# Altium footprint library openmv-ae3.PcbLib: 51 footprints (part 3 of 4)
Each footprint in its own frame and in the unit in brackets; x right, y up, seen from the top. Pads: shape width x height; smd on the part's side, far side on the other; paste and mask are expansions set on the pad; w line width, h text height; cw(c..) or ccw(c..) is an arc to the next point about the centre after c.
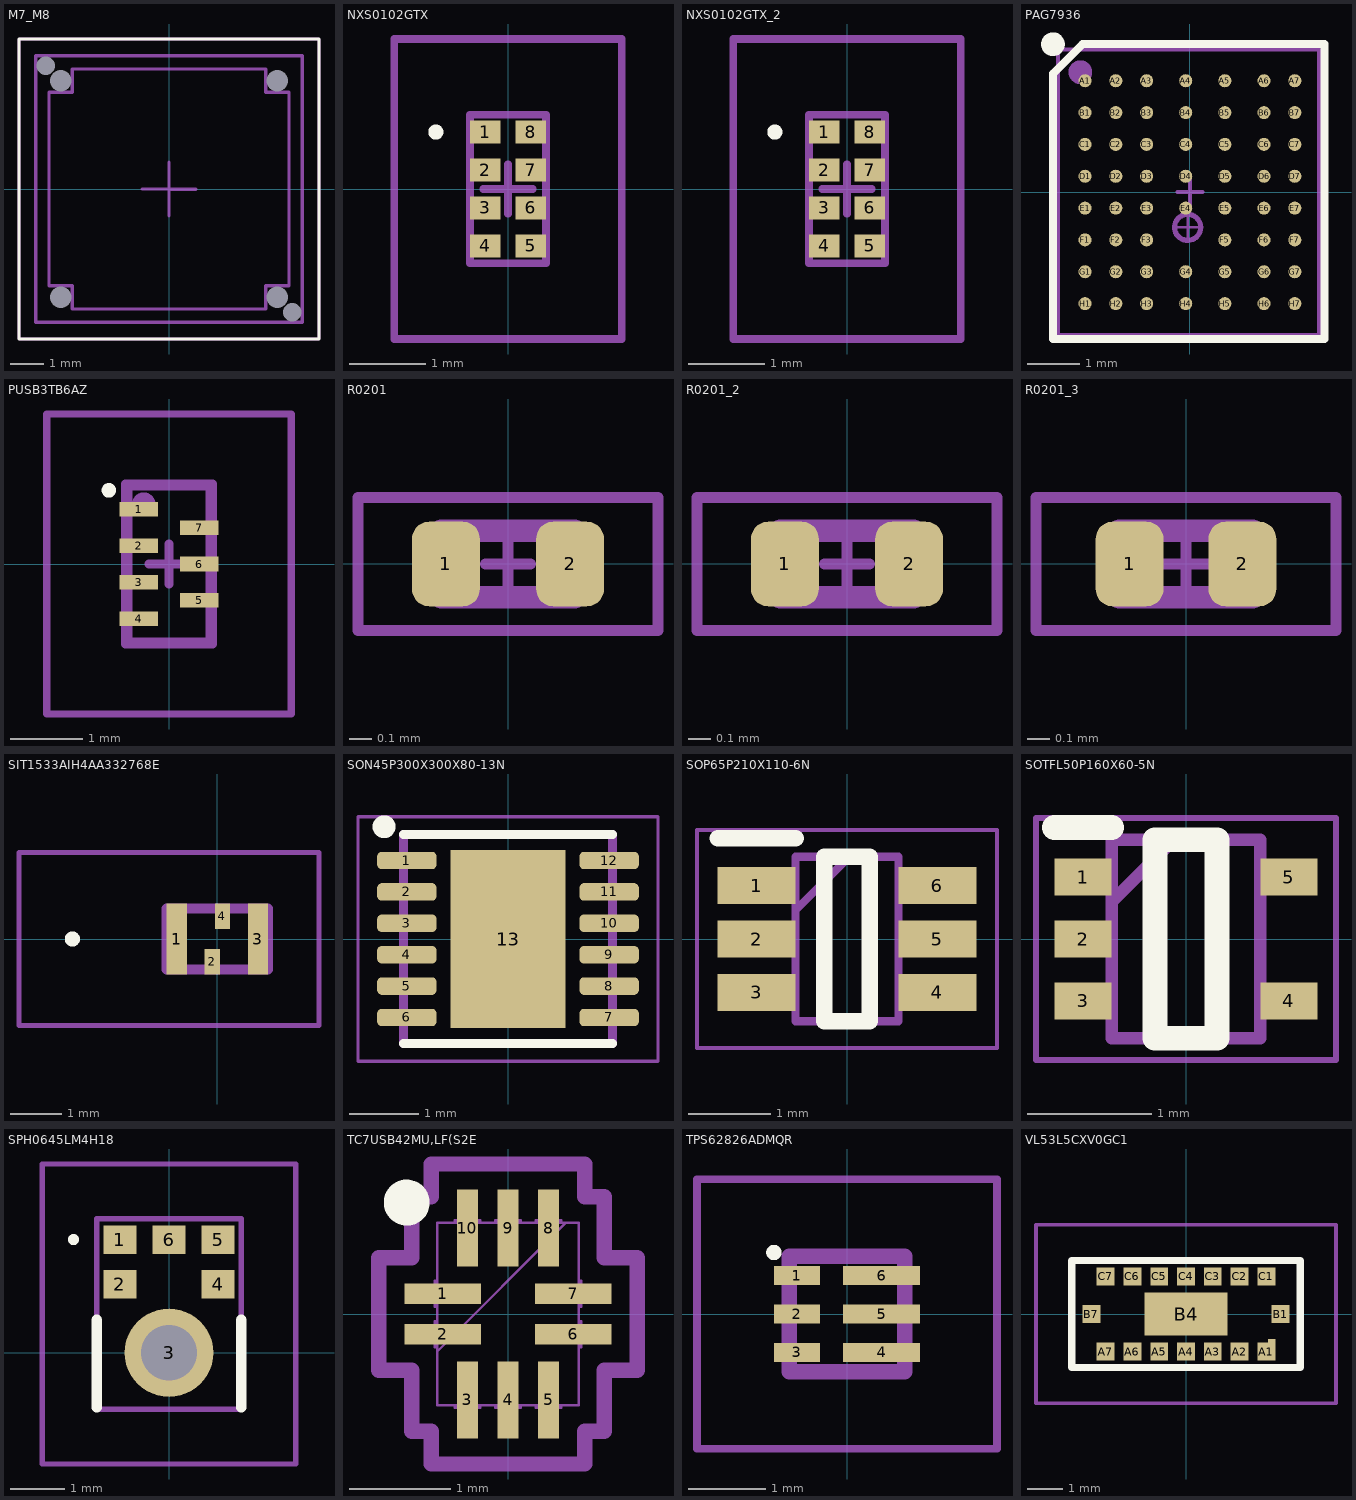
[diagram p2: the footprints below, top view; thin cyan lines are the x and y axes]

## M7_M8 [mm]
pads (6):
  rect 0x0 hole 0.55 unplated mask+0.05: 0(-3.7,3.7) 0(3.7,-3.7)
  rect 0x0 hole 0.65 unplated mask+0.05: 0(-3.25,-3.25) 0(-3.25,3.25) 0(3.25,-3.25) 0(3.25,3.25)
Top Overlay:
  lines w0.1: -4.5,-4.5 4.5,-4.5 4.5,4.5 -4.5,4.5 -4.5,-4.5
Mechanical 13:
  lines w0.1: -0.8,0 0,0 ; 0,-0.8 0,0 ; 0,0.8 0,0 ; 0.007,-0.006 0.807,-0.006 ; -4.5,-4.5 4.5,-4.5 4.5,4.5 -4.5,4.5 -4.5,-4.5 ; -4,-4 4,-4 4,4 -4,4 -4,-4 ; -3.6,-2.9 -3.6,2.9 -2.9,2.9 -2.9,3.6 2.9,3.6 2.9,2.9 3.6,2.9 3.6,-2.9 2.9,-2.9 2.9,-3.6 -2.9,-3.6 -2.9,-2.9 -3.6,-2.9
  text ".designator" at -1.9,-1.833 h0.5
3D body "HD14F3817.step": height 5.71, standoff 0.01, extent -4,-4 4,4
3D body "C451-H18-F10-5MP.step": height 9.52, standoff 0.01, extent -4.507,-4.494 4.493,4.506

## NXS0102GTX [mm]
pads (8):
  rect 0.4x0.3 smd mask+0.051: 1(-0.3,0.75) 2(-0.3,0.25) 3(-0.3,-0.25) 4(-0.3,-0.75) 5(0.3,-0.75) 6(0.3,-0.25) 7(0.3,0.25) 8(0.3,0.75)
Top Overlay:
  lines w0.1: -1,0.75 ccw(c-0.95,0.75) -0.9,0.75 ccw(c-0.95,0.75) -1,0.75
Top 3D Body:
  lines w0.1: -0.325,0 0,0 ; 0,-0.325 0,0 ; 0,0.325 0,0 ; 0.325,0 0,0 ; -0.5,-0.975 0.5,-0.975 0.5,0.975 -0.5,0.975 -0.5,-0.975
  text ".designator" at -0.4,-1.301 h0.3
Top Courtyard:
  lines w0.1: -0.5,-0.975 -0.5,0.975 0.5,0.975 0.5,-0.975 -0.5,-0.975
Mechanical 20:
  lines w0.1: -1.5,-1.975 -1.5,1.975 1.5,1.975 1.5,-1.975 -1.5,-1.975
3D body: height 0.51, standoff 0, extent -0.5,-0.975 0.5,0.975

## NXS0102GTX_2 [mm]
pads (8):
  rect 0.4x0.3 smd mask+0.051: 1(-0.3,0.75) 2(-0.3,0.25) 3(-0.3,-0.25) 4(-0.3,-0.75) 5(0.3,-0.75) 6(0.3,-0.25) 7(0.3,0.25) 8(0.3,0.75)
Top Overlay:
  lines w0.1: -1,0.75 ccw(c-0.95,0.75) -0.9,0.75 ccw(c-0.95,0.75) -1,0.75
Top 3D Body:
  lines w0.1: -0.325,0 0,0 ; 0,-0.325 0,0 ; 0,0.325 0,0 ; 0.325,0 0,0 ; -0.5,-0.975 0.5,-0.975 0.5,0.975 -0.5,0.975 -0.5,-0.975
  text ".designator" at -0.4,-1.301 h0.3
Top Courtyard:
  lines w0.1: -0.5,-0.975 -0.5,0.975 0.5,0.975 0.5,-0.975 -0.5,-0.975
Mechanical 20:
  lines w0.1: -1.5,-1.975 -1.5,1.975 1.5,1.975 1.5,-1.975 -1.5,-1.975
3D body: height 0.51, standoff 0, extent -0.5,-0.975 0.5,0.975

## PAG7936 [mm]
pads (55):
  round 0.25 smd mask+0.051: A1(-2.01,2.135) A2(-1.42,2.135) A3(-0.83,2.135) A4(-0.08,2.135) A5(0.67,2.135) A6(1.42,2.135) A7(2.01,2.135) B1(-2.01,1.525) B2(-1.42,1.525) B3(-0.83,1.525) B4(-0.08,1.525) B5(0.67,1.525) B6(1.42,1.525) B7(2.01,1.525) C1(-2.01,0.915) C2(-1.42,0.915) C3(-0.83,0.915) C4(-0.08,0.915) C5(0.67,0.915) C6(1.42,0.915) C7(2.01,0.915) D1(-2.01,0.305) D2(-1.42,0.305) D3(-0.83,0.305) D4(-0.08,0.305) D5(0.67,0.305) D6(1.42,0.305) D7(2.01,0.305) E1(-2.01,-0.305) E2(-1.42,-0.305) E3(-0.83,-0.305) E4(-0.08,-0.305) E5(0.67,-0.305) E6(1.42,-0.305) E7(2.01,-0.305) F1(-2.01,-0.915) F2(-1.42,-0.915) F3(-0.83,-0.915) F5(0.67,-0.915) F6(1.42,-0.915) F7(2.01,-0.915) G1(-2.01,-1.525) G2(-1.42,-1.525) G3(-0.83,-1.525) G4(-0.08,-1.525) G5(0.67,-1.525) G6(1.42,-1.525) G7(2.01,-1.525) H1(-2.01,-2.135) H2(-1.42,-2.135) H3(-0.83,-2.135) H4(-0.08,-2.135) H5(0.67,-2.135) H6(1.42,-2.135) H7(2.01,-2.135)
Top Overlay:
  circle w0.254: c-2.625,2.835 r0.1
  lines w0.152: -2.625,-2.814 -2.625,2.271 -2.061,2.835 2.575,2.835 2.575,-2.814 -2.625,-2.814
Top 3D Body:
  circle w0.254: c-2.1,2.3 r0.1
  circle w0.1: c-0.044,-0.675 r0.25
  lines w0.05: -0.297,-0.675 -0.043,-0.675 ; -0.044,-0.928 -0.044,-0.675 -0.043,-0.675 ; -0.043,-0.421 -0.043,-0.675 ; 0.211,-0.675 -0.043,-0.675
  lines w0.076: -0.237,0 0,0 ; 0,-0.262 0,0 ; 0,0.267 0,0 ; 0.245,0 0,0 ; -2.525,-2.741 -2.525,2.735 2.475,2.735 2.475,-2.741 -2.525,-2.741
  text "chip center" at 0,-0.036 h0.25
  text ".designator" at -2.2,-2.75 h0.64
  text "optical center" at 0.35,-1.39 h0.25
3D body: height 0.8, standoff 0, extent -2.525,-2.741 2.475,2.735

## PUSB3TB6AZ [mm]
height 2.5
pads (7):
  rect 0.53x0.2 smd mask+0.05: 1(-0.415,0.75) 2(-0.415,0.25) 3(-0.415,-0.25) 4(-0.415,-0.75) 5(0.415,-0.5) 6(0.415,0) 7(0.415,0.5)
Top Overlay:
  lines w0.1: -0.877,1.013 cw(c-0.827,1.013) -0.777,1.013 cw(c-0.827,1.013) -0.877,1.013
Mechanical 13:
  circle w0.203: c-0.347,0.825 r0.058
  lines w0.127: -0.275,0 0,0 ; 0,-0.275 0,0 ; 0.275,0 0,0 ; 0,0 0,0.275 0,0 ; -0.6,-1.1 0.6,-1.1 0.6,1.1 -0.6,1.1 -0.6,-1.1
  text ".designator" at 0.58,-1 h0.3
Mechanical 15:
  lines w0.1: -0.55,-1.063 0.55,-1.063 0.55,1.063 -0.55,1.063 -0.55,-1.063
Mechanical 20:
  lines w0.1: -1.68,-2.063 1.68,-2.063 1.68,2.063 -1.68,2.063 -1.68,-2.063
3D body: height 0.5, standoff 0, extent -0.6,-1.1 0.6,1.1

## R0201 [mil] "0201 IPC-7351"
height 10.24
pads (2):
  rrect50% 12x15 smd mask+1.97: 1(-11,0) 2(11,0)
Mechanical 13:
  lines w1.97: -3.94,0 0,0 ; 0,-3.94 0,0 ; 0,3.94 0,0 ; 3.94,0 0,0 ; -26.57,-11.81 26.57,-11.81 26.57,11.81 -26.57,11.81 -26.57,-11.81
Mechanical 15:
  lines w3.94: -11.81,-5.91 11.81,-5.91 11.81,5.91 -11.81,5.91 -11.81,-5.91
  text ".designator" at -7.87,-2.95 h15.75
3D body "R0201.step": height 9.06, standoff 0, extent -11.81,-5.91 11.81,5.91

## R0201_2 [mil]
pads (2):
  rrect50% 12x15 smd mask+1.97: 1(-11,0) 2(11,0)
Mechanical 13:
  lines w3.94: -11.81,-5.91 11.81,-5.91 11.81,5.91 -11.81,5.91 -11.81,-5.91
  text ".designator" at -7.87,-2.95 h15.75
Mechanical 15:
  lines w1.97: -3.94,0 0,0 ; 0,-3.94 0,0 ; 0,3.94 0,0 ; 3.94,0 0,0 ; -26.57,-11.81 26.57,-11.81 26.57,11.81 -26.57,11.81 -26.57,-11.81
3D body "R0201.step": height 9.06, standoff 0, extent -11.81,-5.91 11.81,5.91

## R0201_3 [mil]
pads (2):
  rrect50% 12x15 smd mask+1.97: 1(-10,0) 2(10,0)
Top 3D Body:
  lines w3.94: -11.81,-5.91 11.81,-5.91 11.81,5.91 -11.81,5.91 -11.81,-5.91
  text ".designator" at -7.87,-2.95 h15.75
Top Courtyard:
  lines w1.97: -3.94,0 0,0 ; 0,-3.94 0,0 ; 0,3.94 0,0 ; 3.94,0 0,0 ; -26.57,-11.81 26.57,-11.81 26.57,11.81 -26.57,11.81 -26.57,-11.81
3D body "R0201.step": height 9.06, standoff 0, extent -11.81,-5.91 11.81,5.91

## SIT1533AIH4AA332768E [mm]
pads (4):
  rect 0.4x1.4 smd: 1(-0.8,0) 3(0.8,0)
  rect 0.3x0.5 smd: 2(-0.1,-0.45) 4(0.1,0.45)
Top Overlay:
  lines w0.2: -2.9,0 ccw(c-2.85,0) -2.8,0 ; -2.9,0 cw(c-2.85,0) -2.8,0 ; -2.9,0 ccw(c-2.85,0) -2.8,0
Mechanical 13:
  lines w0.1: -3.9,-1.7 2,-1.7 2,1.7 -3.9,1.7 -3.9,-1.7
Mechanical 15:
  lines w0.2: -1,-0.6 1,-0.6 1,0.6 -1,0.6 -1,-0.6
3D body "SIT1533AI-H4-AA3-32.768E.stp": height 0.6, standoff 0, extent -1.01,-0.6 0.99,0.6

## SON45P300X300X80-13N [mm]
pads (13):
  rrect50% 0.85x0.25 smd mask+0.051: 1(-1.45,1.125) 2(-1.45,0.675) 3(-1.45,0.225) 4(-1.45,-0.225) 5(-1.45,-0.675) 6(-1.45,-1.125) 7(1.45,-1.125) 8(1.45,-0.675) 9(1.45,-0.225) 10(1.45,0.225) 11(1.45,0.675) 12(1.45,1.125)
  rect 1.65x2.55 smd paste-0.254 mask+0.051: 13(0,0)
Top Overlay:
  circle w0.254: c-1.776,1.609 r0.037
  lines w0.127: -1.5,-1.5 1.5,-1.5 ; -1.5,1.5 1.5,1.5
Top 3D Body:
  lines w0.127: -0.25,0 0.25,0 ; 0,-0.25 0,0.25 ; -1.5,-1.5 1.5,-1.5 1.5,1.5 -1.5,1.5 -1.5,-1.5
  text ".designator" at -1.25,-1.635 h0.76
Top Courtyard:
  lines w0.05: -2.15,-1.75 2.15,-1.75 2.15,1.75 -2.15,1.75 -2.15,-1.75
3D body: height 0.5, standoff 0, extent -1.5,-1.5 1.5,1.5

## SOP65P210X110-6N [mm]
pads (6):
  rect 0.95x0.45 smd: 1(-1.1,0.65) 2(-1.1,0) 3(-1.1,-0.65) 4(1.1,-0.65) 5(1.1,0) 6(1.1,0.65)
Top Overlay:
  lines w0.2: -1.575,1.225 -0.625,1.225 ; -0.275,-1 0.275,-1 0.275,1 -0.275,1 -0.275,-1
Mechanical 13:
  lines w0.05: -1.825,-1.325 1.825,-1.325 1.825,1.325 -1.825,1.325 -1.825,-1.325
Mechanical 15:
  lines w0.1: -0.625,0.35 0.025,1 ; -0.625,-1 0.625,-1 0.625,1 -0.625,1 -0.625,-1
3D body "LM66100DCKR.stp": height 1, standoff 0, extent -1.05,-1 1.05,1

## SOTFL50P160X60-5N [mm]
pads (5):
  rect 0.46x0.3 smd: 1(-0.83,0.5) 2(-0.83,0) 3(-0.83,-0.5) 4(0.83,-0.5) 5(0.83,0.5)
Top Overlay:
  lines w0.2: -1.06,0.9 -0.6,0.9 ; -0.25,-0.8 -0.25,0.8 0.25,0.8 0.25,-0.8 -0.25,-0.8
Mechanical 13:
  lines w0.1: -0.6,0.3 -0.1,0.8 ; -0.6,-0.8 -0.6,0.8 0.6,0.8 0.6,-0.8 -0.6,-0.8
Mechanical 15:
  lines w0.05: -1.21,-0.975 -1.21,0.975 1.21,0.975 1.21,-0.975 -1.21,-0.975
3D body "DF5A5.6CJE,LM.stp": height 0.6, standoff 0, extent -0.8,-0.8 0.8,0.8

## SPH0645LM4H18 [mm]
pads (6):
  rect 0.6x0.522 smd: 1(-0.9,2.074) 2(-0.9,1.252) 4(0.9,1.252) 5(0.9,2.074) 6(0,2.074)
  round 1.624 / inner round 0 / far side round 0 hole 1.024: 3(0,0)
Top Overlay:
  lines w0.1: -1.8,2.074 ccw(c-1.75,2.074) -1.7,2.074 ccw(c-1.75,2.074) -1.8,2.074
  lines w0.2: -1.325,-1 -1.325,0.6 ; 1.325,-1 1.325,0.6
Mechanical 13:
  lines w0.1: -2.325,-2.04 -2.325,3.46 2.325,3.46 2.325,-2.04 -2.325,-2.04
Mechanical 15:
  lines w0.1: -1.325,-1.04 -1.325,2.46 1.325,2.46 1.325,-1.04 -1.325,-1.04
3D body "SPH0645LM4H-1-8.stp": height 0.98, standoff 0, extent -1.325,-1.04 1.325,2.46

## TC7USB42MU,LF(S2E [mm]
pads (10):
  rect 0.757x0.204 smd paste+0 mask+0: 1(-0.645,0.2) 2(-0.645,-0.2) 6(0.645,-0.2) 7(0.645,0.2)
  rect 0.204x0.757 smd paste+0 mask+0: 3(-0.4,-0.848) 4(0,-0.848) 5(0.4,-0.848) 8(0.4,0.848) 9(0,0.848) 10(-0.4,0.848)
Top Overlay:
  circle w0.254: c-1,1.1 r0.1
Top 3D Body:
  lines w0.025: -0.699,-0.368 0.572,0.902 ; -0.724,-0.327 -0.724,-0.073 -0.699,-0.073 -0.699,-0.327 -0.724,-0.327 ; -0.724,0.073 -0.724,0.327 -0.699,0.327 -0.699,0.073 -0.724,0.073 ; -0.699,-0.902 0.699,-0.902 0.699,0.902 -0.699,0.902 -0.699,-0.902 ; -0.527,-0.927 -0.527,-0.902 -0.273,-0.902 -0.273,-0.927 -0.527,-0.927 ; -0.527,0.902 -0.273,0.902 -0.273,0.927 -0.527,0.927 -0.527,0.902 ; -0.127,-0.927 -0.127,-0.902 0.127,-0.902 0.127,-0.927 -0.127,-0.927 ; -0.127,0.902 0.127,0.902 0.127,0.927 -0.127,0.927 -0.127,0.902 ; 0.273,-0.927 0.273,-0.902 0.527,-0.902 0.527,-0.927 0.273,-0.927 ; 0.273,0.902 0.527,0.902 0.527,0.927 0.273,0.927 0.273,0.902 ; 0.699,-0.327 0.699,-0.073 0.724,-0.073 0.724,-0.327 0.699,-0.327 ; 0.699,0.073 0.699,0.327 0.724,0.327 0.724,0.073 0.699,0.073
  text "*" at -0.584,-0.235 h1.27
  text ".designator" at -0.548,-0.929 h0.51
Top Courtyard:
  lines w0.152: -1.278,-0.556 -0.953,-0.556 -0.953,-1.156 -0.756,-1.156 -0.756,-1.481 0.756,-1.481 0.756,-1.156 0.953,-1.156 0.953,-0.556 1.278,-0.556 1.278,0.556 0.953,0.556 0.953,1.156 0.756,1.156 0.756,1.481 -0.756,1.481 -0.756,1.156 -0.953,1.156 -0.953,0.556 -1.278,0.556 -1.278,-0.556
3D body "UQFN10.step": height 0.5, standoff 0, extent -0.7,-0.9 0.7,0.9

## TPS62826ADMQR [mm]
pads (6):
  rect 0.6x0.25 smd mask+0.05: 1(-0.65,0.5) 2(-0.65,0) 3(-0.65,-0.5)
  rect 1x0.25 smd mask+0.05: 4(0.45,-0.5) 5(0.45,0) 6(0.45,0.5)
Top Overlay:
  lines w0.1: -1,0.8 cw(c-0.95,0.8) -0.9,0.8 cw(c-0.95,0.8) -1,0.8
Top 3D Body:
  lines w0.076: -0.763,-0.734 -0.763,0.735 0.731,0.735 0.731,-0.734 -0.763,-0.734
  text ".designator" at -0.7,-0.711 h0.51
Top Courtyard:
  lines w0.2: -0.75,-0.75 0.75,-0.75 0.75,0.75 -0.75,0.75 -0.75,-0.75
Mechanical 20:
  lines w0.1: -1.95,-1.75 1.95,-1.75 1.95,1.75 -1.95,1.75 -1.95,-1.75
3D body: height 0.5, standoff 0, extent -0.76,-0.74 0.734,0.738

## VL53L5CXV0GC1 [mm]
pads (18):
  rect 0.5x0.5 smd: A1(2.25,-1.05) A2(1.5,-1.05) A3(0.75,-1.05) A4(0,-1.05) A5(-0.75,-1.05) A6(-1.5,-1.05) A7(-2.25,-1.05) B1(2.65,0) B7(-2.65,0) C1(2.25,1.05) C2(1.5,1.05) C3(0.75,1.05) C4(0,1.05) C5(-0.75,1.05) C6(-1.5,1.05) C7(-2.25,1.05)
  rect 0.2x0.1 smd: A8(2.4,-0.75)
  rect 2.316x1.2 smd: B4(0,0)
Top Overlay:
  lines w0.2: -3.2,-1.501 -3.2,1.502 3.2,1.502 3.2,-1.501 -3.2,-1.501
Mechanical 13:
  lines w0.1: -3.2,-1.501 -3.2,1.502 3.2,1.502 3.2,-1.501 -3.2,-1.501
Mechanical 15:
  lines w0.1: -4.2,-2.502 -4.2,2.502 4.2,2.502 4.2,-2.502 -4.2,-2.502
3D body "VL53L5CXV0GC_1.stp": height 4.5, standoff 0, extent -3.535,-2.218 4.19,2.058